# Altium footprint library DXPpcb.PCBLIB: 575 footprints (part 22 of 36)
Each footprint in its own frame and in the unit in brackets; x right, y up, seen from the top. Pads: shape width x height; smd on the part's side, far side on the other; paste and mask are expansions set on the pad; w line width, h text height; cw(c..) or ccw(c..) is an arc to the next point about the centre after c.
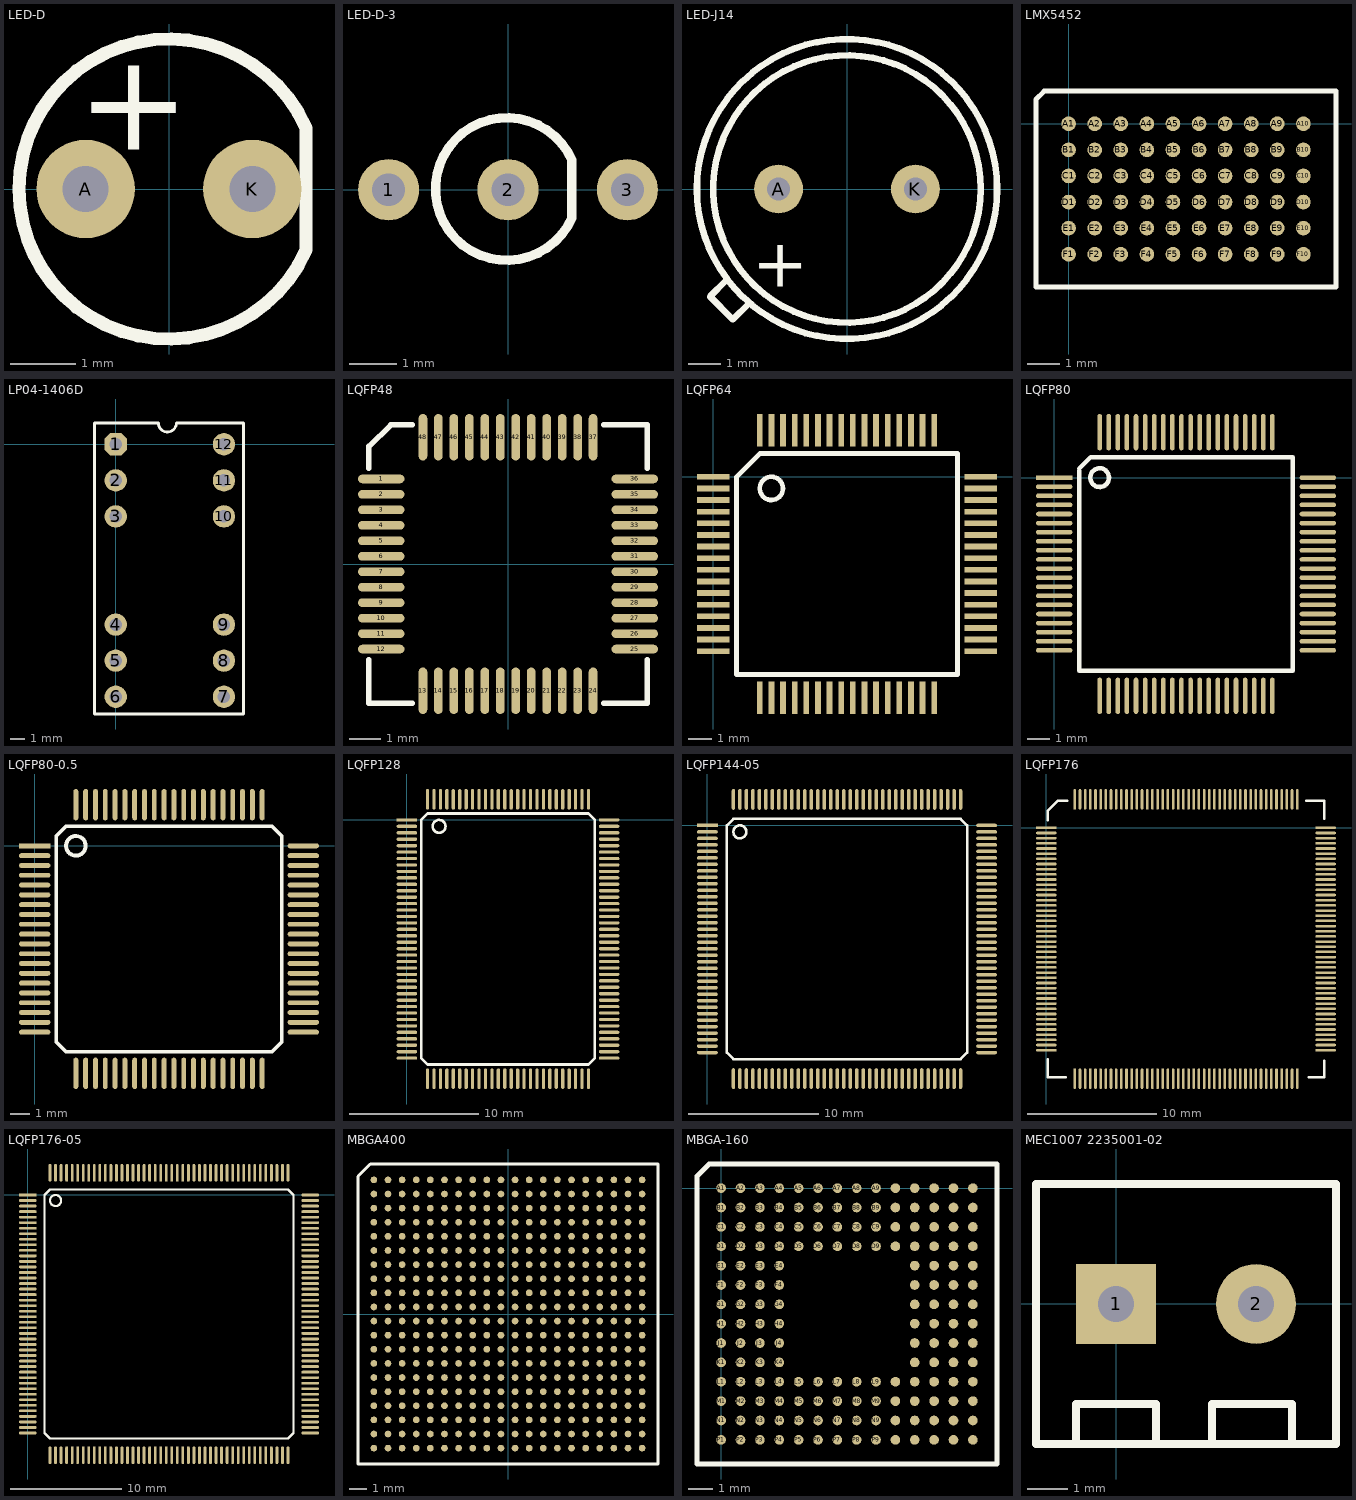
[diagram p21: the footprints below, top view; thin cyan lines are the x and y axes]

## LED-D [mm]
pads (2):
  round 1.5 hole 0.7: A(-1.27,0) K(1.27,0)
TopOverlay:
  lines w0.2: 2.089,-0.928 cw(c0,0) 2.089,0.928 2.089,-0.928
  text "+" at -1.4,0.6 h1.5

## LED-D-3 [mm]
pads (3):
  round 1.3 hole 0.7: 1(-2.54,0) 2(0,0) 3(2.54,0)
TopOverlay:
  lines w0.2: 1.36,0.6 1.36,-0.6 cw(c-0.026,0.016) 1.36,0.632

## LED-J14 [mm]
pads (2):
  round 1.5 hole 0.7: A(-2.1,0) K(2.1,0)
TopOverlay:
  circle w0.2: c0,0 r4.6
  circle w0.2: c0,0 r4.1
  lines w0.2: -3.7,-2.8 -4.2,-3.3 -3.5,-4 -3,-3.5
  text "+" at -2.9,-3 h1.5

## LMX5452 [mm]
pads (60):
  round 0.45 smd: A1(0,-0.001) A2(0.8,-0.001) A3(1.6,-0.001) A4(2.4,-0.001) A5(3.2,-0.001) A6(4,-0.001) A7(4.8,-0.001) A8(5.6,-0.001) A9(6.4,-0.001) A10(7.2,-0.001) B1(0,-0.801) B2(0.8,-0.801) B3(1.6,-0.801) B4(2.4,-0.801) B5(3.2,-0.801) B6(4,-0.801) B7(4.8,-0.801) B8(5.6,-0.801) B9(6.4,-0.801) B10(7.2,-0.801) C1(0,-1.601) C2(0.8,-1.601) C3(1.6,-1.601) C4(2.4,-1.601) C5(3.2,-1.601) C6(4,-1.601) C7(4.8,-1.601) C8(5.6,-1.601) C9(6.4,-1.601) C10(7.2,-1.601) D1(0,-2.401) D2(0.8,-2.401) D3(1.6,-2.401) D4(2.4,-2.401) D5(3.2,-2.401) D6(4,-2.401) D7(4.8,-2.401) D8(5.6,-2.401) D9(6.4,-2.401) D10(7.2,-2.401) E1(0,-3.201) E2(0.8,-3.201) E3(1.6,-3.201) E4(2.4,-3.201) E5(3.2,-3.201) E6(4,-3.201) E7(4.8,-3.201) E8(5.6,-3.201) E9(6.4,-3.201) E10(7.2,-3.201) F1(0,-4.001) F2(0.8,-4.001) F3(1.6,-4.001) F4(2.4,-4.001) F5(3.2,-4.001) F6(4,-4.001) F7(4.8,-4.001) F8(5.6,-4.001) F9(6.4,-4.001) F10(7.2,-4.001)
TopOverlay:
  lines w0.15: -1,-5.001 -1,0.749 -0.75,0.999 8.2,0.999 8.2,-5.001 -1,-5.001

## LP04-1406D [mil]
pads (12):
  oct 62x62 hole 35: 1(0,0)
  round 62 hole 35: 2(0,-100) 3(0,-200) 4(0,-500) 5(0,-600) 6(0,-700) 7(300,-700) 8(300,-600) 9(300,-500) 10(300,-200) 11(300,-100) 12(300,0)
TopOverlay:
  lines w7.87: -59.06,-748.03 -59.06,59.06 118.11,59.06 ccw(c143.11,59.06) 168.11,59.06 354.33,59.06 354.33,-748.03 -59.06,-748.03

## LQFP48 [mm]
pads (48):
  oval 1.5x0.28 smd: 1(-4.1,2.75) 2(-4.1,2.25) 3(-4.1,1.75) 4(-4.1,1.25) 5(-4.1,0.75) 6(-4.1,0.25) 7(-4.1,-0.25) 8(-4.1,-0.75) 9(-4.1,-1.25) 10(-4.1,-1.75) 11(-4.1,-2.25) 12(-4.1,-2.75) 25(4.1,-2.75) 26(4.1,-2.25) 27(4.1,-1.75) 28(4.1,-1.25) 29(4.1,-0.75) 30(4.1,-0.25) 31(4.1,0.25) 32(4.1,0.75) 33(4.1,1.25) 34(4.1,1.75) 35(4.1,2.25) 36(4.1,2.75)
  oval 0.28x1.5 smd: 13(-2.75,-4.1) 14(-2.25,-4.1) 15(-1.75,-4.1) 16(-1.25,-4.1) 17(-0.75,-4.1) 18(-0.25,-4.1) 19(0.25,-4.1) 20(0.75,-4.1) 21(1.25,-4.1) 22(1.75,-4.1) 23(2.25,-4.1) 24(2.75,-4.1) 37(2.75,4.1) 38(2.25,4.1) 39(1.75,4.1) 40(1.25,4.1) 41(0.75,4.1) 42(0.25,4.1) 43(-0.25,4.1) 44(-0.75,4.1) 45(-1.25,4.1) 46(-1.75,4.1) 47(-2.25,4.1) 48(-2.75,4.1)
TopOverlay:
  lines w0.178: -4.5,-3.1 -4.5,-4.5 -3.1,-4.5 ; -4.5,3.1 -4.5,3.8 -3.785,4.5 ; -3.767,4.5 -3.1,4.5 ; 3.1,-4.5 4.5,-4.5 4.5,-3.1 ; 3.1,4.5 4.5,4.5 4.5,3.1

## LQFP64 [mm]
pads (64):
  rect 1.4x0.25 smd: 1(0,0) 2(0,-0.5) 3(0,-1) 4(0,-1.5) 5(0,-2) 6(0,-2.5) 7(0,-3) 8(0,-3.5) 9(0,-4) 10(0,-4.5) 11(0,-5) 12(0,-5.5) 13(0,-6) 14(0,-6.5) 15(0,-7) 16(0,-7.5) 33(11.5,-7.5) 34(11.5,-7) 35(11.5,-6.5) 36(11.5,-6) 37(11.5,-5.5) 38(11.5,-5) 39(11.5,-4.5) 40(11.5,-4) 41(11.5,-3.5) 42(11.5,-3) 43(11.5,-2.5) 44(11.5,-2) 45(11.5,-1.5) 46(11.5,-1) 47(11.5,-0.5) 48(11.5,0)
  rect 0.25x1.4 smd: 17(2,-9.5) 18(2.5,-9.5) 19(3,-9.5) 20(3.5,-9.5) 21(4,-9.5) 22(4.5,-9.5) 23(5,-9.5) 24(5.5,-9.5) 25(6,-9.5) 26(6.5,-9.5) 27(7,-9.5) 28(7.5,-9.5) 29(8,-9.5) 30(8.5,-9.5) 31(9,-9.5) 32(9.5,-9.5) 49(9.5,2) 50(9,2) 51(8.5,2) 52(8,2) 53(7.5,2) 54(7,2) 55(6.5,2) 56(6,2) 57(5.5,2) 58(5,2) 59(4.5,2) 60(4,2) 61(3.5,2) 62(3,2) 63(2.5,2) 64(2,2)
TopOverlay:
  circle w0.2: c2.5,-0.5 r0.5
  lines w0.2: 1,-8.5 1,0 2,1 10.5,1 10.5,-8.5 1,-8.5

## LQFP80 [mm]
pads (80):
  rect 1.6x0.2 smd: 1(0,0)
  oval 1.6x0.2 smd: 2(0,-0.4) 3(0,-0.8) 4(0,-1.2) 5(0,-1.6) 6(0,-2) 7(0,-2.4) 8(0,-2.8) 9(0,-3.2) 10(0,-3.6) 11(0,-4) 12(0,-4.4) 13(0,-4.8) 14(0,-5.2) 15(0,-5.6) 16(0,-6) 17(0,-6.4) 18(0,-6.8) 19(0,-7.2) 20(0,-7.6) 41(11.6,-7.6) 42(11.6,-7.2) 43(11.6,-6.8) 44(11.6,-6.4) 45(11.6,-6) 46(11.6,-5.6) 47(11.6,-5.2) 48(11.6,-4.8) 49(11.6,-4.4) 50(11.6,-4) 51(11.6,-3.6) 52(11.6,-3.2) 53(11.6,-2.8) 54(11.6,-2.4) 55(11.6,-2) 56(11.6,-1.6) 57(11.6,-1.2) 58(11.6,-0.8) 59(11.6,-0.4) 60(11.6,0)
  oval 0.2x1.6 smd: 21(2,-9.6) 22(2.4,-9.6) 23(2.8,-9.6) 24(3.2,-9.6) 25(3.6,-9.6) 26(4,-9.6) 27(4.4,-9.6) 28(4.8,-9.6) 29(5.2,-9.6) 30(5.6,-9.6) 31(6,-9.6) 32(6.4,-9.6) 33(6.8,-9.6) 34(7.2,-9.6) 35(7.6,-9.6) 36(8,-9.6) 37(8.4,-9.6) 38(8.8,-9.6) 39(9.2,-9.6) 40(9.6,-9.6) 61(9.6,2) 62(9.2,2) 63(8.8,2) 64(8.4,2) 65(8,2) 66(7.6,2) 67(7.2,2) 68(6.8,2) 69(6.4,2) 70(6,2) 71(5.6,2) 72(5.2,2) 73(4.8,2) 74(4.4,2) 75(4,2) 76(3.6,2) 77(3.2,2) 78(2.8,2) 79(2.4,2) 80(2,2)
TopOverlay:
  circle w0.2: c2,0 r0.412
  lines w0.2: 1.1,0.3 1.1,-8.5 10.5,-8.5 10.5,0.9 1.6,0.9 1.1,0.4

## LQFP80-0.5 [mm]
pads (80):
  rect 1.6x0.25 smd: 1(0,0)
  oval 1.6x0.25 smd: 2(0,-0.5) 3(0,-1) 4(0,-1.5) 5(0,-2) 6(0,-2.5) 7(0,-3) 8(0,-3.5) 9(0,-4) 10(0,-4.5) 11(0,-5) 12(0,-5.5) 13(0,-6) 14(0,-6.5) 15(0,-7) 16(0,-7.5) 17(0,-8) 18(0,-8.5) 19(0,-9) 20(0,-9.5) 41(13.7,-9.5) 42(13.7,-9) 43(13.7,-8.5) 44(13.7,-8) 45(13.7,-7.5) 46(13.7,-7) 47(13.7,-6.5) 48(13.7,-6) 49(13.7,-5.5) 50(13.7,-5) 51(13.7,-4.5) 52(13.7,-4) 53(13.7,-3.5) 54(13.7,-3) 55(13.7,-2.5) 56(13.7,-2) 57(13.7,-1.5) 58(13.7,-1) 59(13.7,-0.5) 60(13.7,0)
  oval 0.25x1.6 smd: 21(2.1,-11.6) 22(2.6,-11.6) 23(3.1,-11.6) 24(3.6,-11.6) 25(4.1,-11.6) 26(4.6,-11.6) 27(5.1,-11.6) 28(5.6,-11.6) 29(6.1,-11.6) 30(6.6,-11.6) 31(7.1,-11.6) 32(7.6,-11.6) 33(8.1,-11.6) 34(8.6,-11.6) 35(9.1,-11.6) 36(9.6,-11.6) 37(10.1,-11.6) 38(10.6,-11.6) 39(11.1,-11.6) 40(11.6,-11.6) 61(11.6,2.1) 62(11.1,2.1) 63(10.6,2.1) 64(10.1,2.1) 65(9.6,2.1) 66(9.1,2.1) 67(8.6,2.1) 68(8.1,2.1) 69(7.6,2.1) 70(7.1,2.1) 71(6.6,2.1) 72(6.1,2.1) 73(5.6,2.1) 74(5.1,2.1) 75(4.6,2.1) 76(4.1,2.1) 77(3.6,2.1) 78(3.1,2.1) 79(2.6,2.1) 80(2.1,2.1)
TopOverlay:
  circle w0.2: c2.1,0 r0.5
  lines w0.2: 1.1,-10 1.1,0.5 1.6,1 12.1,1 12.6,0.5 12.6,-10 12.1,-10.5 1.6,-10.5 1.1,-10

## LQFP128 [mm]
pads (128):
  rect 1.6x0.25 smd: 1(0,0)
  oval 1.6x0.25 smd: 2(0,-0.5) 3(0,-1) 4(0,-1.5) 5(0,-2) 6(0,-2.5) 7(0,-3) 8(0,-3.5) 9(0,-4) 10(0,-4.5) 11(0,-5) 12(0,-5.5) 13(0,-6) 14(0,-6.5) 15(0,-7) 16(0,-7.5) 17(0,-8) 18(0,-8.5) 19(0,-9) 20(0,-9.5) 21(0,-10) 22(0,-10.5) 23(0,-11) 24(0,-11.5) 25(0,-12) 26(0,-12.5) 27(0,-13) 28(0,-13.5) 29(0,-14) 30(0,-14.5) 31(0,-15) 32(0,-15.5) 33(0,-16) 34(0,-16.5) 35(0,-17) 36(0,-17.5) 37(0,-18) 38(0,-18.5) 65(15.7,-18.5) 66(15.7,-18) 67(15.7,-17.5) 68(15.7,-17) 69(15.7,-16.5) 70(15.7,-16) 71(15.7,-15.5) 72(15.7,-15) 73(15.7,-14.5) 74(15.7,-14) 75(15.7,-13.5) 76(15.7,-13) 77(15.7,-12.5) 78(15.7,-12) 79(15.7,-11.5) 80(15.7,-11) 81(15.7,-10.5) 82(15.7,-10) 83(15.7,-9.5) 84(15.7,-9) 85(15.7,-8.5) 86(15.7,-8) 87(15.7,-7.5) 88(15.7,-7) 89(15.7,-6.5) 90(15.7,-6) 91(15.7,-5.5) 92(15.7,-5) 93(15.7,-4.5) 94(15.7,-4) 95(15.7,-3.5) 96(15.7,-3) 97(15.7,-2.5) 98(15.7,-2) 99(15.7,-1.5) 100(15.7,-1) 101(15.7,-0.5) 102(15.7,0)
  oval 0.25x1.6 smd: 39(1.6,-20.1) 40(2.1,-20.1) 41(2.6,-20.1) 42(3.1,-20.1) 43(3.6,-20.1) 44(4.1,-20.1) 45(4.6,-20.1) 46(5.1,-20.1) 47(5.6,-20.1) 48(6.1,-20.1) 49(6.6,-20.1) 50(7.1,-20.1) 51(7.6,-20.1) 52(8.1,-20.1) 53(8.6,-20.1) 54(9.1,-20.1) 55(9.6,-20.1) 56(10.1,-20.1) 57(10.6,-20.1) 58(11.1,-20.1) 59(11.6,-20.1) 60(12.1,-20.1) 61(12.6,-20.1) 62(13.1,-20.1) 63(13.6,-20.1) 64(14.1,-20.1) 103(14.1,1.6) 104(13.6,1.6) 105(13.1,1.6) 106(12.6,1.6) 107(12.1,1.6) 108(11.6,1.6) 109(11.1,1.6) 110(10.6,1.6) 111(10.1,1.6) 112(9.6,1.6) 113(9.1,1.6) 114(8.6,1.6) 115(8.1,1.6) 116(7.6,1.6) 117(7.1,1.6) 118(6.6,1.6) 119(6.1,1.6) 120(5.6,1.6) 121(5.1,1.6) 122(4.6,1.6) 123(4.1,1.6) 124(3.6,1.6) 125(3.1,1.6) 126(2.6,1.6) 127(2.1,1.6) 128(1.6,1.6)
TopOverlay:
  circle w0.2: c2.5,-0.5 r0.5
  lines w0.2: 1.1,-18.5 1.6,-19 14.1,-19 14.6,-18.5 14.6,0 14.1,0.5 1.6,0.5 1.1,0 1.1,-18.5

## LQFP144-05 [mm]
pads (144):
  rect 1.6x0.25 smd: 1(0,0)
  oval 1.6x0.25 smd: 2(0,-0.5) 3(0,-1) 4(0,-1.5) 5(0,-2) 6(0,-2.5) 7(0,-3) 8(0,-3.5) 9(0,-4) 10(0,-4.5) 11(0,-5) 12(0,-5.5) 13(0,-6) 14(0,-6.5) 15(0,-7) 16(0,-7.5) 17(0,-8) 18(0,-8.5) 19(0,-9) 20(0,-9.5) 21(0,-10) 22(0,-10.5) 23(0,-11) 24(0,-11.5) 25(0,-12) 26(0,-12.5) 27(0,-13) 28(0,-13.5) 29(0,-14) 30(0,-14.5) 31(0,-15) 32(0,-15.5) 33(0,-16) 34(0,-16.5) 35(0,-17) 36(0,-17.5) 73(21.5,-17.5) 74(21.5,-17) 75(21.5,-16.5) 76(21.5,-16) 77(21.5,-15.5) 78(21.5,-15) 79(21.5,-14.5) 80(21.5,-14) 81(21.5,-13.5) 82(21.5,-13) 83(21.5,-12.5) 84(21.5,-12) 85(21.5,-11.5) 86(21.5,-11) 87(21.5,-10.5) 88(21.5,-10) 89(21.5,-9.5) 90(21.5,-9) 91(21.5,-8.5) 92(21.5,-8) 93(21.5,-7.5) 94(21.5,-7) 95(21.5,-6.5) 96(21.5,-6) 97(21.5,-5.5) 98(21.5,-5) 99(21.5,-4.5) 100(21.5,-4) 101(21.5,-3.5) 102(21.5,-3) 103(21.5,-2.5) 104(21.5,-2) 105(21.5,-1.5) 106(21.5,-1) 107(21.5,-0.5) 108(21.5,0)
  oval 0.25x1.6 smd: 37(2,-19.5) 38(2.5,-19.5) 39(3,-19.5) 40(3.5,-19.5) 41(4,-19.5) 42(4.5,-19.5) 43(5,-19.5) 44(5.5,-19.5) 45(6,-19.5) 46(6.5,-19.5) 47(7,-19.5) 48(7.5,-19.5) 49(8,-19.5) 50(8.5,-19.5) 51(9,-19.5) 52(9.5,-19.5) 53(10,-19.5) 54(10.5,-19.5) 55(11,-19.5) 56(11.5,-19.5) 57(12,-19.5) 58(12.5,-19.5) 59(13,-19.5) 60(13.5,-19.5) 61(14,-19.5) 62(14.5,-19.5) 63(15,-19.5) 64(15.5,-19.5) 65(16,-19.5) 66(16.5,-19.5) 67(17,-19.5) 68(17.5,-19.5) 69(18,-19.5) 70(18.5,-19.5) 71(19,-19.5) 72(19.5,-19.5) 109(19.5,2) 110(19,2) 111(18.5,2) 112(18,2) 113(17.5,2) 114(17,2) 115(16.5,2) 116(16,2) 117(15.5,2) 118(15,2) 119(14.5,2) 120(14,2) 121(13.5,2) 122(13,2) 123(12.5,2) 124(12,2) 125(11.5,2) 126(11,2) 127(10.5,2) 128(10,2) 129(9.5,2) 130(9,2) 131(8.5,2) 132(8,2) 133(7.5,2) 134(7,2) 135(6.5,2) 136(6,2) 137(5.5,2) 138(5,2) 139(4.5,2) 140(4,2) 141(3.5,2) 142(3,2) 143(2.5,2) 144(2,2)
TopOverlay:
  circle w0.2: c2.5,-0.5 r0.5
  lines w0.2: 1.5,-17.5 1.5,0 2,0.5 19.5,0.5 20,0 20,-17.5 19.5,-18 2,-18 1.5,-17.5

## LQFP176 [mm]
pads (176):
  rect 1.6x0.2 smd: 1(0,0)
  oval 1.6x0.2 smd: 2(0,-0.4) 3(0,-0.8) 4(0,-1.2) 5(0,-1.6) 6(0,-2) 7(0,-2.4) 8(0,-2.8) 9(0,-3.2) 10(0,-3.6) 11(0,-4) 12(0,-4.4) 13(0,-4.8) 14(0,-5.2) 15(0,-5.6) 16(0,-6) 17(0,-6.4) 18(0,-6.8) 19(0,-7.2) 20(0,-7.6) 21(0,-8) 22(0,-8.4) 23(0,-8.8) 24(0,-9.2) 25(0,-9.6) 26(0,-10) 27(0,-10.4) 28(0,-10.8) 29(0,-11.2) 30(0,-11.6) 31(0,-12) 32(0,-12.4) 33(0,-12.8) 34(0,-13.2) 35(0,-13.6) 36(0,-14) 37(0,-14.4) 38(0,-14.8) 39(0,-15.2) 40(0,-15.6) 41(0,-16) 42(0,-16.4) 43(0,-16.8) 44(0,-17.2) 89(21.6,-17.2) 90(21.6,-16.8) 91(21.6,-16.4) 92(21.6,-16) 93(21.6,-15.6) 94(21.6,-15.2) 95(21.6,-14.8) 96(21.6,-14.4) 97(21.6,-14) 98(21.6,-13.6) 99(21.6,-13.2) 100(21.6,-12.8) 101(21.6,-12.4) 102(21.6,-12) 103(21.6,-11.6) 104(21.6,-11.2) 105(21.6,-10.8) 106(21.6,-10.4) 107(21.6,-10) 108(21.6,-9.6) 109(21.6,-9.2) 110(21.6,-8.8) 111(21.6,-8.4) 112(21.6,-8) 113(21.6,-7.6) 114(21.6,-7.2) 115(21.6,-6.8) 116(21.6,-6.4) 117(21.6,-6) 118(21.6,-5.6) 119(21.6,-5.2) 120(21.6,-4.8) 121(21.6,-4.4) 122(21.6,-4) 123(21.6,-3.6) 124(21.6,-3.2) 125(21.6,-2.8) 126(21.6,-2.4) 127(21.6,-2) 128(21.6,-1.6) 129(21.6,-1.2) 130(21.6,-0.8) 131(21.6,-0.4) 132(21.6,0)
  oval 0.2x1.6 smd: 45(2.2,-19.4) 46(2.6,-19.4) 47(3,-19.4) 48(3.4,-19.4) 49(3.8,-19.4) 50(4.2,-19.4) 51(4.6,-19.4) 52(5,-19.4) 53(5.4,-19.4) 54(5.8,-19.4) 55(6.2,-19.4) 56(6.6,-19.4) 57(7,-19.4) 58(7.4,-19.4) 59(7.8,-19.4) 60(8.2,-19.4) 61(8.6,-19.4) 62(9,-19.4) 63(9.4,-19.4) 64(9.8,-19.4) 65(10.2,-19.4) 66(10.6,-19.4) 67(11,-19.4) 68(11.4,-19.4) 69(11.8,-19.4) 70(12.2,-19.4) 71(12.6,-19.4) 72(13,-19.4) 73(13.4,-19.4) 74(13.8,-19.4) 75(14.2,-19.4) 76(14.6,-19.4) 77(15,-19.4) 78(15.4,-19.4) 79(15.8,-19.4) 80(16.2,-19.4) 81(16.6,-19.4) 82(17,-19.4) 83(17.4,-19.4) 84(17.8,-19.4) 85(18.2,-19.4) 86(18.6,-19.4) 87(19,-19.4) 88(19.4,-19.4) 133(19.4,2.2) 134(19,2.2) 135(18.6,2.2) 136(18.2,2.2) 137(17.8,2.2) 138(17.4,2.2) 139(17,2.2) 140(16.6,2.2) 141(16.2,2.2) 142(15.8,2.2) 143(15.4,2.2) 144(15,2.2) 145(14.6,2.2) 146(14.2,2.2) 147(13.8,2.2) 148(13.4,2.2) 149(13,2.2) 150(12.6,2.2) 151(12.2,2.2) 152(11.8,2.2) 153(11.4,2.2) 154(11,2.2) 155(10.6,2.2) 156(10.2,2.2) 157(9.8,2.2) 158(9.4,2.2) 159(9,2.2) 160(8.6,2.2) 161(8.2,2.2) 162(7.8,2.2) 163(7.4,2.2) 164(7,2.2) 165(6.6,2.2) 166(6.2,2.2) 167(5.8,2.2) 168(5.4,2.2) 169(5,2.2) 170(4.6,2.2) 171(4.2,2.2) 172(3.8,2.2) 173(3.4,2.2) 174(3,2.2) 175(2.6,2.2) 176(2.2,2.2)
TopOverlay:
  lines w0.2: 0.1,-17.9 0.1,-19.3 1.5,-19.3 ; 0.1,0.6 0.1,1.3 0.9,2.1 1.6,2.1 ; 20.1,2.1 21.5,2.1 21.5,0.7 ; 20.3,-19.3 21.5,-19.3 21.5,-18

## LQFP176-05 [mm]
pads (176):
  rect 1.6x0.25 smd: 1(0,0)
  oval 1.6x0.25 smd: 2(0,-0.5) 3(0,-1) 4(0,-1.5) 5(0,-2) 6(0,-2.5) 7(0,-3) 8(0,-3.5) 9(0,-4) 10(0,-4.5) 11(0,-5) 12(0,-5.5) 13(0,-6) 14(0,-6.5) 15(0,-7) 16(0,-7.5) 17(0,-8) 18(0,-8.5) 19(0,-9) 20(0,-9.5) 21(0,-10) 22(0,-10.5) 23(0,-11) 24(0,-11.5) 25(0,-12) 26(0,-12.5) 27(0,-13) 28(0,-13.5) 29(0,-14) 30(0,-14.5) 31(0,-15) 32(0,-15.5) 33(0,-16) 34(0,-16.5) 35(0,-17) 36(0,-17.5) 37(0,-18) 38(0,-18.5) 39(0,-19) 40(0,-19.5) 41(0,-20) 42(0,-20.5) 43(0,-21) 44(0,-21.5) 89(25.5,-21.5) 90(25.5,-21) 91(25.5,-20.5) 92(25.5,-20) 93(25.5,-19.5) 94(25.5,-19) 95(25.5,-18.5) 96(25.5,-18) 97(25.5,-17.5) 98(25.5,-17) 99(25.5,-16.5) 100(25.5,-16) 101(25.5,-15.5) 102(25.5,-15) 103(25.5,-14.5) 104(25.5,-14) 105(25.5,-13.5) 106(25.5,-13) 107(25.5,-12.5) 108(25.5,-12) 109(25.5,-11.5) 110(25.5,-11) 111(25.5,-10.5) 112(25.5,-10) 113(25.5,-9.5) 114(25.5,-9) 115(25.5,-8.5) 116(25.5,-8) 117(25.5,-7.5) 118(25.5,-7) 119(25.5,-6.5) 120(25.5,-6) 121(25.5,-5.5) 122(25.5,-5) 123(25.5,-4.5) 124(25.5,-4) 125(25.5,-3.5) 126(25.5,-3) 127(25.5,-2.5) 128(25.5,-2) 129(25.5,-1.5) 130(25.5,-1) 131(25.5,-0.5) 132(25.5,0)
  oval 0.25x1.6 smd: 45(2,-23.5) 46(2.5,-23.5) 47(3,-23.5) 48(3.5,-23.5) 49(4,-23.5) 50(4.5,-23.5) 51(5,-23.5) 52(5.5,-23.5) 53(6,-23.5) 54(6.5,-23.5) 55(7,-23.5) 56(7.5,-23.5) 57(8,-23.5) 58(8.5,-23.5) 59(9,-23.5) 60(9.5,-23.5) 61(10,-23.5) 62(10.5,-23.5) 63(11,-23.5) 64(11.5,-23.5) 65(12,-23.5) 66(12.5,-23.5) 67(13,-23.5) 68(13.5,-23.5) 69(14,-23.5) 70(14.5,-23.5) 71(15,-23.5) 72(15.5,-23.5) 73(16,-23.5) 74(16.5,-23.5) 75(17,-23.5) 76(17.5,-23.5) 77(18,-23.5) 78(18.5,-23.5) 79(19,-23.5) 80(19.5,-23.5) 81(20,-23.5) 82(20.5,-23.5) 83(21,-23.5) 84(21.5,-23.5) 85(22,-23.5) 86(22.5,-23.5) 87(23,-23.5) 88(23.5,-23.5) 133(23.5,2) 134(23,2) 135(22.5,2) 136(22,2) 137(21.5,2) 138(21,2) 139(20.5,2) 140(20,2) 141(19.5,2) 142(19,2) 143(18.5,2) 144(18,2) 145(17.5,2) 146(17,2) 147(16.5,2) 148(16,2) 149(15.5,2) 150(15,2) 151(14.5,2) 152(14,2) 153(13.5,2) 154(13,2) 155(12.5,2) 156(12,2) 157(11.5,2) 158(11,2) 159(10.5,2) 160(10,2) 161(9.5,2) 162(9,2) 163(8.5,2) 164(8,2) 165(7.5,2) 166(7,2) 167(6.5,2) 168(6,2) 169(5.5,2) 170(5,2) 171(4.5,2) 172(4,2) 173(3.5,2) 174(3,2) 175(2.5,2) 176(2,2)
TopOverlay:
  circle w0.2: c2.5,-0.5 r0.5
  lines w0.2: 1.5,-21.5 1.5,0 2,0.5 23.5,0.5 24,0 24,-21.5 23.5,-22 2,-22 1.5,-21.5

## MBGA400 [mm]
pads (400):
  round 0.38 smd: A1(-7.6,7.6) A2(-6.8,7.6) A3(-6,7.6) A4(-5.2,7.6) A5(-4.4,7.6) A6(-3.6,7.6) A7(-2.8,7.6) A8(-2,7.6) A9(-1.2,7.6) A10(-0.4,7.6) A11(0.4,7.6) A12(1.2,7.6) A13(2,7.6) A14(2.8,7.6) A15(3.6,7.6) A16(4.4,7.6) A17(5.2,7.6) A18(6,7.6) A19(6.8,7.6) A20(7.6,7.6) B1(-7.6,6.8) B2(-6.8,6.8) B3(-6,6.8) B4(-5.2,6.8) B5(-4.4,6.8) B6(-3.6,6.8) B7(-2.8,6.8) B8(-2,6.8) B9(-1.2,6.8) B10(-0.4,6.8) B11(0.4,6.8) B12(1.2,6.8) B13(2,6.8) B14(2.8,6.8) B15(3.6,6.8) B16(4.4,6.8) B17(5.2,6.8) B18(6,6.8) B19(6.8,6.8) B20(7.6,6.8) C1(-7.6,6) C2(-6.8,6) C3(-6,6) C4(-5.2,6) C5(-4.4,6) C6(-3.6,6) C7(-2.8,6) C8(-2,6) C9(-1.2,6) C10(-0.4,6) C11(0.4,6) C12(1.2,6) C13(2,6) C14(2.8,6) C15(3.6,6) C16(4.4,6) C17(5.2,6) C18(6,6) C19(6.8,6) C20(7.6,6) D1(-7.6,5.2) D2(-6.8,5.2) D3(-6,5.2) D4(-5.2,5.2) D5(-4.4,5.2) D6(-3.6,5.2) D7(-2.8,5.2) D8(-2,5.2) D9(-1.2,5.2) D10(-0.4,5.2) D11(0.4,5.2) D12(1.2,5.2) D13(2,5.2) D14(2.8,5.2) D15(3.6,5.2) D16(4.4,5.2) D17(5.2,5.2) D18(6,5.2) D19(6.8,5.2) D20(7.6,5.2) E1(-7.6,4.4) E2(-6.8,4.4) E3(-6,4.4) E4(-5.2,4.4) E5(-4.4,4.4) E6(-3.6,4.4) E7(-2.8,4.4) E8(-2,4.4) E9(-1.2,4.4) E10(-0.4,4.4) E11(0.4,4.4) E12(1.2,4.4) E13(2,4.4) E14(2.8,4.4) E15(3.6,4.4) E16(4.4,4.4) E17(5.2,4.4) E18(6,4.4) E19(6.8,4.4) E20(7.6,4.4) F1(-7.6,3.6) F2(-6.8,3.6) F3(-6,3.6) F4(-5.2,3.6) F5(-4.4,3.6) F6(-3.6,3.6) F7(-2.8,3.6) F8(-2,3.6) F9(-1.2,3.6) F10(-0.4,3.6) F11(0.4,3.6) F12(1.2,3.6) F13(2,3.6) F14(2.8,3.6) F15(3.6,3.6) F16(4.4,3.6) F17(5.2,3.6) F18(6,3.6) F19(6.8,3.6) F20(7.6,3.6) G1(-7.6,2.8) G2(-6.8,2.8) G3(-6,2.8) G4(-5.2,2.8) G5(-4.4,2.8) G6(-3.6,2.8) G7(-2.8,2.8) G8(-2,2.8) G9(-1.2,2.8) G10(-0.4,2.8) G11(0.4,2.8) G12(1.2,2.8) G13(2,2.8) G14(2.8,2.8) G15(3.6,2.8) G16(4.4,2.8) G17(5.2,2.8) G18(6,2.8) G19(6.8,2.8) G20(7.6,2.8) H1(-7.6,2) H2(-6.8,2) H3(-6,2) H4(-5.2,2) H5(-4.4,2) H6(-3.6,2) H7(-2.8,2) H8(-2,2) H9(-1.2,2) H10(-0.4,2) H11(0.4,2) H12(1.2,2) H13(2,2) H14(2.8,2) H15(3.6,2) H16(4.4,2) H17(5.2,2) H18(6,2) H19(6.8,2) H20(7.6,2) J1(-7.6,1.2) J2(-6.8,1.2) J3(-6,1.2) J4(-5.2,1.2) J5(-4.4,1.2) J6(-3.6,1.2) J7(-2.8,1.2) J8(-2,1.2) J9(-1.2,1.2) J10(-0.4,1.2) J11(0.4,1.2) J12(1.2,1.2) J13(2,1.2) J14(2.8,1.2) J15(3.6,1.2) J16(4.4,1.2) J17(5.2,1.2) J18(6,1.2) J19(6.8,1.2) J20(7.6,1.2) K1(-7.6,0.4) K2(-6.8,0.4) K3(-6,0.4) K4(-5.2,0.4) K5(-4.4,0.4) K6(-3.6,0.4) K7(-2.8,0.4) K8(-2,0.4) K9(-1.2,0.4) K10(-0.4,0.4) K11(0.4,0.4) K12(1.2,0.4) K13(2,0.4) K14(2.8,0.4) K15(3.6,0.4) K16(4.4,0.4) K17(5.2,0.4) K18(6,0.4) K19(6.8,0.4) K20(7.6,0.4) L1(-7.6,-0.4) L2(-6.8,-0.4) L3(-6,-0.4) L4(-5.2,-0.4) L5(-4.4,-0.4) L6(-3.6,-0.4) L7(-2.8,-0.4) L8(-2,-0.4) L9(-1.2,-0.4) L10(-0.4,-0.4) L11(0.4,-0.4) L12(1.2,-0.4) L13(2,-0.4) L14(2.8,-0.4) L15(3.6,-0.4) L16(4.4,-0.4) L17(5.2,-0.4) L18(6,-0.4) L19(6.8,-0.4) L20(7.6,-0.4) M1(-7.6,-1.2) M2(-6.8,-1.2) M3(-6,-1.2) M4(-5.2,-1.2) M5(-4.4,-1.2) M6(-3.6,-1.2) M7(-2.8,-1.2) M8(-2,-1.2) M9(-1.2,-1.2) M10(-0.4,-1.2) M11(0.4,-1.2) M12(1.2,-1.2) M13(2,-1.2) M14(2.8,-1.2) M15(3.6,-1.2) M16(4.4,-1.2) M17(5.2,-1.2) M18(6,-1.2) M19(6.8,-1.2) M20(7.6,-1.2) N1(-7.6,-2) N2(-6.8,-2) N3(-6,-2) N4(-5.2,-2) N5(-4.4,-2) N6(-3.6,-2) N7(-2.8,-2) N8(-2,-2) N9(-1.2,-2) N10(-0.4,-2) N11(0.4,-2) N12(1.2,-2) N13(2,-2) N14(2.8,-2) N15(3.6,-2) N16(4.4,-2) N17(5.2,-2) N18(6,-2) N19(6.8,-2) N20(7.6,-2) P1(-7.6,-2.8) P2(-6.8,-2.8) P3(-6,-2.8) P4(-5.2,-2.8) P5(-4.4,-2.8) P6(-3.6,-2.8) P7(-2.8,-2.8) P8(-2,-2.8) P9(-1.2,-2.8) P10(-0.4,-2.8) P11(0.4,-2.8) P12(1.2,-2.8) P13(2,-2.8) P14(2.8,-2.8) P15(3.6,-2.8) P16(4.4,-2.8) P17(5.2,-2.8) P18(6,-2.8) P19(6.8,-2.8) P20(7.6,-2.8) R1(-7.6,-3.6) R2(-6.8,-3.6) R3(-6,-3.6) R4(-5.2,-3.6) R5(-4.4,-3.6) R6(-3.6,-3.6) R7(-2.8,-3.6) R8(-2,-3.6) R9(-1.2,-3.6) R10(-0.4,-3.6) R11(0.4,-3.6) R12(1.2,-3.6) R13(2,-3.6) R14(2.8,-3.6) R15(3.6,-3.6) R16(4.4,-3.6) R17(5.2,-3.6) R18(6,-3.6) R19(6.8,-3.6) R20(7.6,-3.6) T1(-7.6,-4.4) T2(-6.8,-4.4) T3(-6,-4.4) T4(-5.2,-4.4) T5(-4.4,-4.4) T6(-3.6,-4.4) T7(-2.8,-4.4) T8(-2,-4.4) T9(-1.2,-4.4) T10(-0.4,-4.4) T11(0.4,-4.4) T12(1.2,-4.4) T13(2,-4.4) T14(2.8,-4.4) T15(3.6,-4.4) T16(4.4,-4.4) T17(5.2,-4.4) T18(6,-4.4) T19(6.8,-4.4) T20(7.6,-4.4) U1(-7.6,-5.2) U2(-6.8,-5.2) U3(-6,-5.2) U4(-5.2,-5.2) U5(-4.4,-5.2) U6(-3.6,-5.2) U7(-2.8,-5.2) U8(-2,-5.2) U9(-1.2,-5.2) U10(-0.4,-5.2) U11(0.4,-5.2) U12(1.2,-5.2) U13(2,-5.2) U14(2.8,-5.2) U15(3.6,-5.2) U16(4.4,-5.2) U17(5.2,-5.2) U18(6,-5.2) U19(6.8,-5.2) U20(7.6,-5.2) V1(-7.6,-6) V2(-6.8,-6) V3(-6,-6) V4(-5.2,-6) V5(-4.4,-6) V6(-3.6,-6) V7(-2.8,-6) V8(-2,-6) V9(-1.2,-6) V10(-0.4,-6) V11(0.4,-6) V12(1.2,-6) V13(2,-6) V14(2.8,-6) V15(3.6,-6) V16(4.4,-6) V17(5.2,-6) V18(6,-6) V19(6.8,-6) V20(7.6,-6) W1(-7.6,-6.8) W2(-6.8,-6.8) W3(-6,-6.8) W4(-5.2,-6.8) W5(-4.4,-6.8) W6(-3.6,-6.8) W7(-2.8,-6.8) W8(-2,-6.8) W9(-1.2,-6.8) W10(-0.4,-6.8) W11(0.4,-6.8) W12(1.2,-6.8) W13(2,-6.8) W14(2.8,-6.8) W15(3.6,-6.8) W16(4.4,-6.8) W17(5.2,-6.8) W18(6,-6.8) W19(6.8,-6.8) W20(7.6,-6.8) Y1(-7.6,-7.6) Y2(-6.8,-7.6) Y3(-6,-7.6) Y4(-5.2,-7.6) Y5(-4.4,-7.6) Y6(-3.6,-7.6) Y7(-2.8,-7.6) Y8(-2,-7.6) Y9(-1.2,-7.6) Y10(-0.4,-7.6) Y11(0.4,-7.6) Y12(1.2,-7.6) Y13(2,-7.6) Y14(2.8,-7.6) Y15(3.6,-7.6) Y16(4.4,-7.6) Y17(5.2,-7.6) Y18(6,-7.6) Y19(6.8,-7.6) Y20(7.6,-7.6)
TopOverlay:
  lines w0.178: -8.5,-8.5 -8.5,7.8 -7.8,8.5 8.5,8.5 8.5,-8.5 -8.5,-8.5

## MBGA-160 [mm]
pads (160):
  round 0.4 smd: A1(0,0) A2(0.8,0) A3(1.6,0) A4(2.4,0) A5(3.2,0) A6(4,0) A7(4.8,0) A8(5.6,0) A9(6.4,0) A10(7.2,0) A11(8,0) A12(8.8,0) A13(9.6,0) A14(10.4,0) B1(0,-0.8) B2(0.8,-0.8) B3(1.6,-0.8) B4(2.4,-0.8) B5(3.2,-0.8) B6(4,-0.8) B7(4.8,-0.8) B8(5.6,-0.8) B9(6.4,-0.8) B10(7.2,-0.8) B11(8,-0.8) B12(8.8,-0.8) B13(9.6,-0.8) B14(10.4,-0.8) C1(0,-1.6) C2(0.8,-1.6) C3(1.6,-1.6) C4(2.4,-1.6) C5(3.2,-1.6) C6(4,-1.6) C7(4.8,-1.6) C8(5.6,-1.6) C9(6.4,-1.6) C10(7.2,-1.6) C11(8,-1.6) C12(8.8,-1.6) C13(9.6,-1.6) C14(10.4,-1.6) D1(0,-2.4) D2(0.8,-2.4) D3(1.6,-2.4) D4(2.4,-2.4) D5(3.2,-2.4) D6(4,-2.4) D7(4.8,-2.4) D8(5.6,-2.4) D9(6.4,-2.4) D10(7.2,-2.4) D11(8,-2.4) D12(8.8,-2.4) D13(9.6,-2.4) D14(10.4,-2.4) E1(0,-3.2) E2(0.8,-3.2) E3(1.6,-3.2) E4(2.4,-3.2) E11(8,-3.2) E12(8.8,-3.2) E13(9.6,-3.2) E14(10.4,-3.2) F1(0,-4) F2(0.8,-4) F3(1.6,-4) F4(2.4,-4) F11(8,-4) F12(8.8,-4) F13(9.6,-4) F14(10.4,-4) G1(0,-4.8) G2(0.8,-4.8) G3(1.6,-4.8) G4(2.4,-4.8) G11(8,-4.8) G12(8.8,-4.8) G13(9.6,-4.8) G14(10.4,-4.8) H1(0,-5.6) H2(0.8,-5.6) H3(1.6,-5.6) H4(2.4,-5.6) H11(8,-5.6) H12(8.8,-5.6) H13(9.6,-5.6) H14(10.4,-5.6) J1(0,-6.4) J2(0.8,-6.4) J3(1.6,-6.4) J4(2.4,-6.4) J11(8,-6.4) J12(8.8,-6.4) J13(9.6,-6.4) J14(10.4,-6.4) K1(0,-7.2) K2(0.8,-7.2) K3(1.6,-7.2) K4(2.4,-7.2) K11(8,-7.2) K12(8.8,-7.2) K13(9.6,-7.2) K14(10.4,-7.2) L1(0,-8) L2(0.8,-8) L3(1.6,-8) L4(2.4,-8) L5(3.2,-8) L6(4,-8) L7(4.8,-8) L8(5.6,-8) L9(6.4,-8) L10(7.2,-8) L11(8,-8) L12(8.8,-8) L13(9.6,-8) L14(10.4,-8) M1(0,-8.8) M2(0.8,-8.8) M3(1.6,-8.8) M4(2.4,-8.8) M5(3.2,-8.8) M6(4,-8.8) M7(4.8,-8.8) M8(5.6,-8.8) M9(6.4,-8.8) M10(7.2,-8.8) M11(8,-8.8) M12(8.8,-8.8) M13(9.6,-8.8) M14(10.4,-8.8) N1(0,-9.6) N2(0.8,-9.6) N3(1.6,-9.6) N4(2.4,-9.6) N5(3.2,-9.6) N6(4,-9.6) N7(4.8,-9.6) N8(5.6,-9.6) N9(6.4,-9.6) N10(7.2,-9.6) N11(8,-9.6) N12(8.8,-9.6) N13(9.6,-9.6) N14(10.4,-9.6) P1(0,-10.4) P2(0.8,-10.4) P3(1.6,-10.4) P4(2.4,-10.4) P5(3.2,-10.4) P6(4,-10.4) P7(4.8,-10.4) P8(5.6,-10.4) P9(6.4,-10.4) P10(7.2,-10.4) P11(8,-10.4) P12(8.8,-10.4) P13(9.6,-10.4) P14(10.4,-10.4)
TopOverlay:
  lines w0.2: -1,-11.4 -1,0.5 -0.5,1 11.4,1 11.4,-11.4 -1,-11.4

## MEC1007 2235001-02 [mm]
pads (2):
  rect 2x2 hole 0.9: 1(0,0)
  round 2 hole 0.9: 2(3.5,0)
TopOverlay:
  lines w0.2: -1,-3.5 -1,-2.5 1,-2.5 1,-3.5 ; 2.4,-3.5 2.4,-2.5 4.4,-2.5 4.4,-3.5 ; -2,-3.5 5.5,-3.5 5.5,3 -2,3 -2,0 -2,-3.5